# EAGLE library part MKL17Z256VFM4 (library Freescale)
ARM® Cortex®-M0+ Kinetis KL1 Microcontroller IC 32-Bit 48MHz 256KB
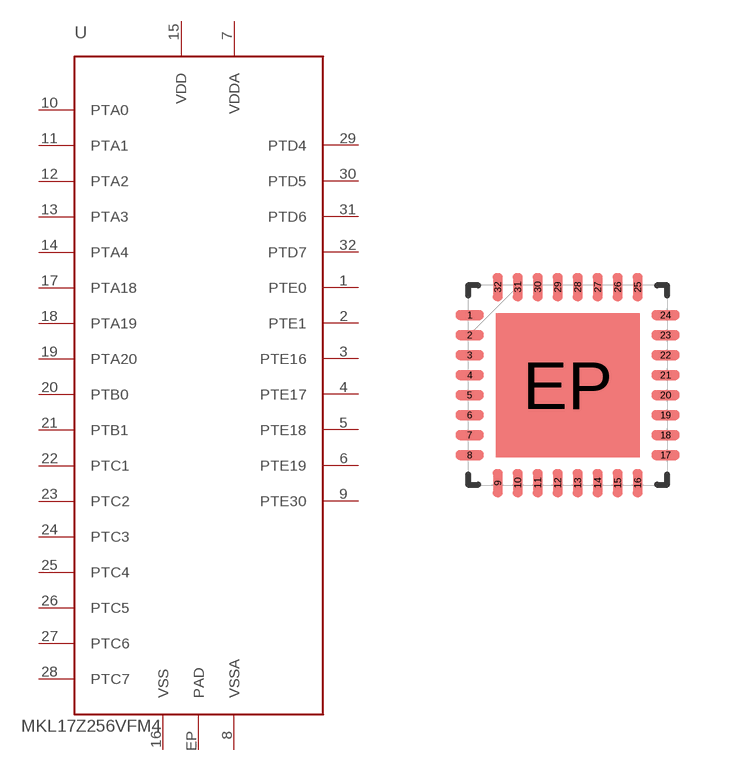
[diagram p3: symbol with the pads of QFN32_5X5-50P-EP; footprint QFN32_5X5-50P-EP]

Designator prefix U

## MKL17Z256VFM4 (DIGIKEY: MKL17Z256VFM4-ND; MFR: NXP; MPN: MKL17Z256VFM4; P1I: o)  [QFN32_5X5-50P-EP]
1  PTE0
2  PTE1
3  PTE16
4  PTE17
5  PTE18
6  PTE19
7  VDDA
8  VSSA
9  PTE30
10  PTA0
11  PTA1
12  PTA2
13  PTA3
14  PTA4
15  VDD
16  VSS
17  PTA18
18  PTA19
19  PTA20
20  PTB0
21  PTB1
22  PTC1
23  PTC2
24  PTC3
25  PTC4
26  PTC5
27  PTC6
28  PTC7
29  PTD4
30  PTD5
31  PTD6
32  PTD7
EP  PAD

## Footprint QFN32_5X5-50P-EP (pad centres in mm)
smd 0.7 x 0.25: 1 -2.45,1.75; 2 -2.45,1.25; 3 -2.45,0.75; 4 -2.45,0.25; 5 -2.45,-0.25; 6 -2.45,-0.75; 7 -2.45,-1.25; 8 -2.45,-1.75; 17 2.45,-1.75; 18 2.45,-1.25; 19 2.45,-0.75; 20 2.45,-0.25; 21 2.45,0.25; 22 2.45,0.75; 23 2.45,1.25; 24 2.45,1.75
smd 0.25 x 0.7: 9 -1.75,-2.45; 10 -1.25,-2.45; 11 -0.75,-2.45; 12 -0.25,-2.45; 13 0.25,-2.45; 14 0.75,-2.45; 15 1.25,-2.45; 16 1.75,-2.45; 25 1.75,2.45; 26 1.25,2.45; 27 0.75,2.45; 28 0.25,2.45; 29 -0.25,2.45; 30 -0.75,2.45; 31 -1.25,2.45; 32 -1.75,2.45
smd 3.6 x 3.6: EP 0,0